# Altium schematic symbol library Passive-Ind.SchLib: 4 symbols
Pins are listed as number, name and electrical type; pins without a type are passive.

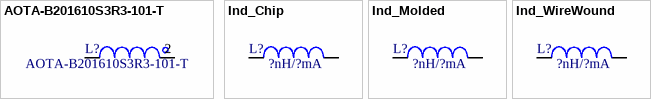
[diagram p0: symbols AOTA-B201610S3R3-101-T to Ind_WireWound]

## AOTA-B201610S3R3-101-T
designator L?
小功率电感; Manufacturer_Name: ABRACON; Manufacturer_Part_Number: AOTA-B201610S3R3-101-T; LCSC: C42411119
footprint IND-SMD_AOTA-B201610S3R3-101-T (品牌名称 / ABRACON / 商品型号 / AOTA-B201610S3R3-101-T)
pins: 1, 2

## Ind_Chip
designator L?, comment ?nH/?mA
小功率电感; Manufacturer_Name: *; Manufacturer_Part_Number: *
footprint L_0603 (Chip Inductor, 2-Leads, Body 1.60x0.80mm, IPC Medium Density)
footprint L_0805 (Chip Inductor, 2-Leads, Body 2.10x1.25mm, IPC Medium Density)
footprint L_1008 (Chip Inductor, 2-Leads, Body 2.50x2.00mm, IPC Medium Density)
footprint L_0806
pins: 1, 2

## Ind_Molded
designator L?, comment ?nH/?mA
一体成型功率电感; Manufacturer_Name: *; Manufacturer_Part_Number: *
footprint Ind-SMD_7.3x6.6 (Molded Inductor, 2-Leads, Body 7.30x6.60mm, IPC Medium Density)
footprint IND-SMD_11X10 (Molded Inductor, 2-Leads, Body 10.80x10.00mm, IPC Medium Density)
footprint IND-SMD-4.6X4.2X2.0 (Molded Inductor, 2-Leads, Body 4.60x4.20mm, IPC Medium Density)
pins: 1, 2

## Ind_WireWound
designator L?, comment ?nH/?mA
绕线型功率电感; Manufacturer_Name: *; Manufacturer_Part_Number: *
footprint CD31 (3.5*3*1mm（长宽高）)
footprint CD32 (3.5*3*2mm（长宽高）)
footprint CD42 (4.5*4*2mm（长宽高）)
footprint CD43 (4.5*4*3.2mm（长宽高）)
footprint CD52 (5.8*5.2*3mm（长宽高）)
footprint CD53 (5.8*5.2*3.5mm（长宽高）)
footprint CD54 (5.8*5.2*4.5mm（长宽高）)
footprint CD75 (7.8*7*5mm（长宽高）)
footprint CD104 (10*9*4mm（长宽高）)
footprint CD105 (10*9*5.4mm（长宽高）)
footprint CD106 (10*9*6.5mm（长宽高）)
footprint CDRH73 (7.3*7.3*3.4mm（长宽高）)
footprint CDRH74 (7.3*7.3*4.5mm（长宽高）)
footprint CDRH124 (12*12*4.5mm（长宽高）)
pins: 1, 2